# Altium schematic symbol library VESC_DEVICE_Library.SchLib: 34 symbols
Pins are listed as number, name and electrical type; pins without a type are passive.

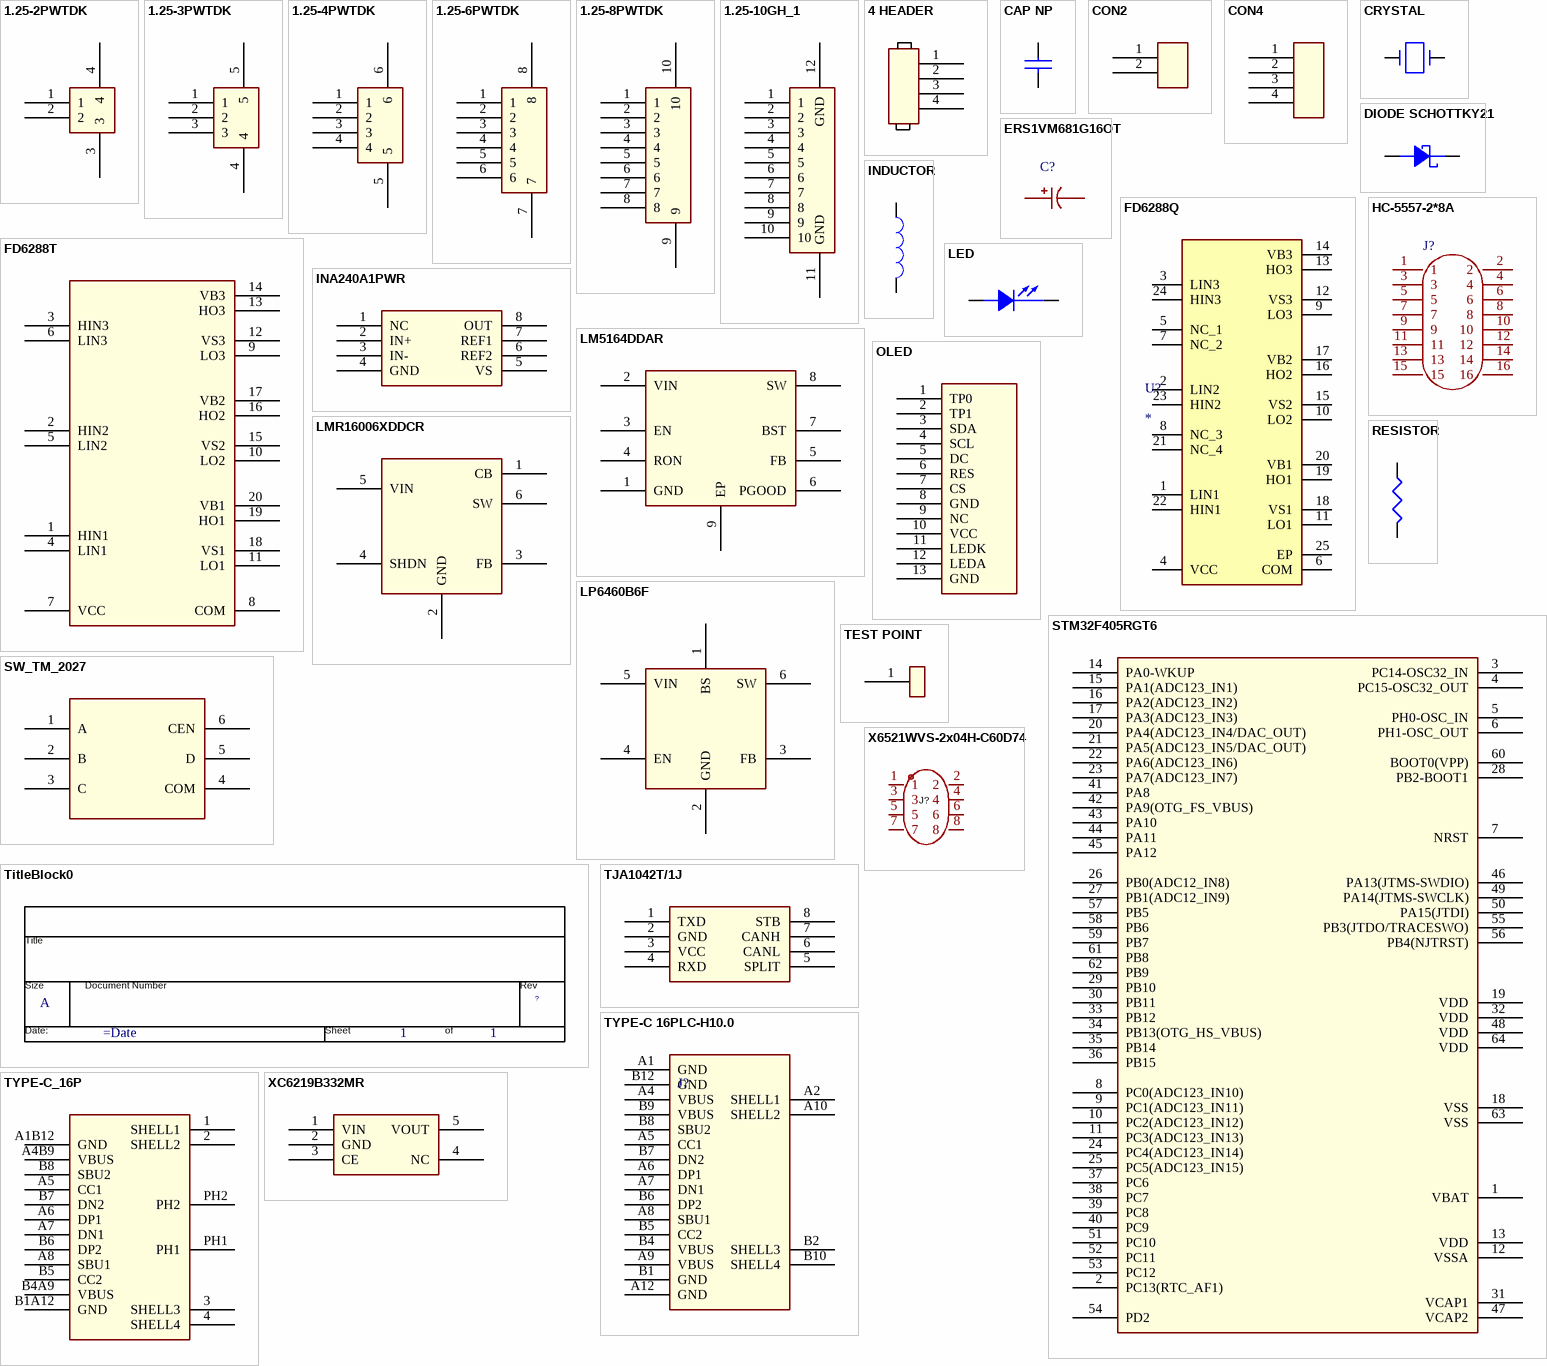
[diagram p0: symbols 1.25-2PWTDK to XC6219B332MR]

## 1.25-2PWTDK
designator J?
footprint SMD-2P-1_25
pins: 1, 2, 3, 4

## 1.25-3PWTDK
designator J?
footprint SMD-3P-1_25
pins: 1, 2, 3, 4, 5

## 1.25-4PWTDK
designator J?
footprint SMD-4P-1_25
pins: 1, 2, 3, 4, 5, 6

## 1.25-6PWTDK
designator J?
footprint SMD-6P-1_25
pins: 1, 2, 3, 4, 5, 6, 7, 8

## 1.25-8PWTDK
designator J?
footprint SMD-8P-1_25
pins: 1, 2, 3, 4, 5, 6, 7, 8, 9, 10

## 1.25-10GH_1
designator J?
footprint CONN-SMD_10P-P1.25_JS_GH125-S10CCA-00
pins: 1, 2, 3, 4, 5, 6, 7, 8, 9, 10, 11 GND, 12 GND

## 4 HEADER
designator J?
pins: 1, 2, 3, 4

## CAP NP
designator C?
pins: 1, 2

## CON2
designator J?
pins: 1, 2

## CON4
designator J?
pins: 1, 2, 3, 4

## CRYSTAL
designator Y?
pins: 1, 2

## DIODE SCHOTTKY21
designator D?
pins: 1 K, 2 A

## ERS1VM681G16OT
designator C?, comment 680uF  (value not drawn)
容值:680uF;精度:±20%;额定电压:35V;纹波电流:-;等效串联电阻:-;; Manufacturer: AISHI(艾华集团); Symbol: ERS1VM681G16OT; Add into BOM: yes; Tolerance: ±20%; Rated Voltage: 35V; Device: ERS1VM681G16OT; LCSC Part Name: 680uF ±20% 35V; Supplier Part: C721283; Manufacturer Part: ERS1VM681G16OT; Supplier Footprint: 插件,D10xL16mm; Datasheet: https://atta.szlcsc.com/upload/public/pdf/source/20191015/C438940_4B8E60A742BB0AE40DDEF87A5C89089D.pdf; Supplier: LCSC; Convert to PCB: yes; Value: 680uF; Ripple Current: -; Equivalent Series Resistance(ESR): -; Lead Spacing: -; φD: -; L: -; Lifetime @ Temp: -
footprint CAP-TH_BD10.0-P5.00-D0.6-FD
pins: 1, 2

## FD6288Q
designator U?
Integrated Circuit; Manufacturer_Name: Fortior Tech; Manufacturer_Part_Number: FD6288Q; Datasheet Link: https://datasheet.lcsc.com/szlcsc/1811131655_Fortior-Tech-FD6288Q_C328453.pdf; Height: 0.9mm
footprint QFN50P400X400X90-25N-D
pins: 1 LIN1, 2 LIN2, 3 LIN3, 4 VCC, 5 NC_1, 6 COM, 7 NC_2, 8 NC_3, 9 LO3, 10 LO2, 11 LO1, 12 VS3, 13 HO3, 14 VB3, 15 VS2, 16 HO2, 17 VB2, 18 VS1, 19 HO1, 20 VB1, 21 NC_4, 22 HIN1, 23 HIN2, 24 HIN3, 25 EP

## FD6288T
designator U?
footprint TSSOP-20
pins: 1 HIN1, 2 HIN2, 3 HIN3, 4 LIN1, 5 LIN2, 6 LIN3, 7 VCC (power), 8 COM (power), 9 LO3, 10 LO2, 11 LO1, 12 VS3, 13 HO3, 14 VB3, 15 VS2, 16 HO2, 17 VB2, 18 VS1, 19 HO1, 20 VB1

## HC-5557-2*8A
designator J?  (value not drawn)
插针结构:2x8P;间距:4.2mm;安装方式:直插;参考系列:Mini-Fit(MX 4.2);总PIN数:16P;排数:2;每排PIN数:8;行距:4.2mm;额定电流:9A;触头材质:黄铜;触头镀层:锡;工作温度范围:-25℃~+85℃;; Manufacturer: HCTL(华灿天禄); Add into BOM: yes; Pins Structure: 2x8P; Pitch: 4.2mm; Number of PINs Per Row: 8; Current Rating (Max): 9A; Rated Voltage (Max): 600V; Plastic Material: PA66; Flame Retardant Rating: UL94V-0; Z-Height of the Board: 13.1mm; X-Length of Bottom Edge on Board (Spacing Line): 34.8mm; Y-Width of Bottom Edge on Board: 11.4mm; Symbol: HC-5557-2*8A; Device: HC-5557-2*8A; LCSC Part Name: 2x8P 间距:4.2mm 直插 系列:Mini-Fit(MX 4.2); Supplier Part: C2845783; Manufacturer Part: HC-5557-2*8A; Supplier Footprint: 插件,P=4.2mm; Datasheet: https://atta.szlcsc.com/upload/public/pdf/source/20230620/FF5B1F4AE343F4430EEB0EA0134778E8.pdf; Supplier: LCSC; Convert to PCB: yes; Mounting Style: 直插; Reference Series: Mini-Fit(MX 4.2); Number of Pins: 16P; Number of Rows: 2; Row Spacing: 4.2mm; Contact Material: 黄铜; Contact Plating: 锡; Operating Temperature Range: -25℃~+85℃; Supplementary Features: -; Colour: -
footprint CONN-TH_HC5557-2X8A
pins: 1, 2, 3, 4, 5, 6, 7, 8, 9, 10, 11, 12, 13, 14, 15, 16

## INA240A1PWR
designator U?
footprint TSSOP-8
pins: 1 NC, 2 IN+, 3 IN-, 4 GND, 5 VS, 6 REF2, 7 REF1, 8 OUT

## INDUCTOR
designator L?
pins: 1, 2

## LED
designator D?
pins: 1 CATHODE, 2 ANODE

## LM5164DDAR
designator U?
footprint SO-8-EP
pins: 1 GND (power), 2 VIN (power), 3 EN, 4 RON, 5 FB, 6 PGOOD, 7 BST, 8 SW, 9 EP

## LMR16006XDDCR
designator U?
footprint SOT-23-6
pins: 1 CB, 2 GND, 3 FB, 4 SHDN, 5 VIN, 6 SW

## LP6460B6F
designator U?
footprint SOT-23-6
pins: 1 BS, 2 GND, 3 FB, 4 EN, 5 VIN, 6 SW

## OLED
designator CON?
footprint 0_78OLED
pins: 1 TP0, 2 TP1, 3 SDA, 4 SCL, 5 DC, 6 RES, 7 CS, 8 GND (power), 9 NC, 10 VCC (power), 11 LEDK, 12 LEDA, 13 GND (power)

## RESISTOR
designator R?
pins: 1, 2

## STM32F405RGT6
designator U?
footprint LQFP-64_10x10x05P
pins: 1 VBAT (power), 2 PC13(RTC_AF1), 3 PC14-OSC32_IN, 4 PC15-OSC32_OUT, 5 PH0-OSC_IN, 6 PH1-OSC_OUT, 7 NRST, 8 PC0(ADC123_IN10), 9 PC1(ADC123_IN11), 10 PC2(ADC123_IN12), 11 PC3(ADC123_IN13), 12 VSSA (power), 13 VDD (power), 14 PA0-WKUP, 15 PA1(ADC123_IN1), 16 PA2(ADC123_IN2), 17 PA3(ADC123_IN3), 18 VSS (power), 19 VDD (power), 20 PA4(ADC123_IN4/DAC_OUT), 21 PA5(ADC123_IN5/DAC_OUT), 22 PA6(ADC123_IN6), 23 PA7(ADC123_IN7), 24 PC4(ADC123_IN14), 25 PC5(ADC123_IN15), 26 PB0(ADC12_IN8), 27 PB1(ADC12_IN9), 28 PB2-BOOT1, 29 PB10, 30 PB11, 31 VCAP1, 32 VDD (power), 33 PB12, 34 PB13(OTG_HS_VBUS), 35 PB14, 36 PB15, 37 PC6, 38 PC7, 39 PC8, 40 PC9, 41 PA8, 42 PA9(OTG_FS_VBUS), 43 PA10, 44 PA11, 45 PA12, 46 PA13(JTMS-SWDIO), 47 VCAP2, 48 VDD (power), 49 PA14(JTMS-SWCLK), 50 PA15(JTDI), 51 PC10, 52 PC11, 53 PC12, 54 PD2, 55 PB3(JTDO/TRACESWO), 56 PB4(NJTRST), 57 PB5, 58 PB6, 59 PB7, 60 BOOT0(VPP), 61 PB8, 62 PB9, 63 VSS (power), 64 VDD (power)

## SW_TM_2027
designator SW?
footprint SW_SMD_6P_10X10
pins: 1 A, 2 B, 3 C, 4 COM, 5 D, 6 CEN

## TEST POINT
designator TP?
footprint HOLE-8MM_M
footprint HOLE-4MM_M
pins: 1

## TitleBlock0
designator *  Page Count: 1  Page Size: A  (hidden comment: *)  (graphical)
Page Create Date: March  8, 1995; Page Number: 1; RevCode: ?; Page Modify Date: =Date
text: Title; Size; Document Number; Rev; Date:; Sheet; of

## TJA1042T/1J
designator U?
footprint SOP-8_150mil
pins: 1 TXD, 2 GND, 3 VCC, 4 RXD, 5 SPLIT, 6 CANL, 7 CANH, 8 STB

## TM-2027
designator U?
footprint SW_SMD_6P_10X10

## TYPE-C 16PLC-H10.0
designator J?  (value not drawn)
连接器类型:Type-C;标准:USB 3.1;公母:母;安装方式:直插;触点数量:16P;端口数量:1;额定电流 - 电源:5A;触头材质:-;触头镀层:-;工作温度范围:-40℃~+85℃;; Manufacturer: SHOU HAN(首韩); Add into BOM: yes; Gender: 母; Number of Contacts: 16P; Number of Ports: 1; Current Rating - Power (Max): 5A; Rated Voltage (Max): 20V; Connect-Disconnect Life: 1万次; Core Colour: 黑色; Symbol: TYPE-C 16PLC-H10.0; Device: TYPE-C 16PLC-H10.0; LCSC Part Name: Type-C 母 直插; Supplier Part: C3151747; Manufacturer Part: TYPE-C 16PLC-H10.0; Supplier Footprint: 插件; Datasheet: https://atta.szlcsc.com/upload/public/pdf/source/20240529/CC9428849977884A813B584EA396EFE9.pdf; Supplier: LCSC; Convert to PCB: yes; Connector Type: Type-C; Standard: USB 3.1; Mounting Style: 直插; Contact Material: -; Contact Plating: -; Operating Temperature Range: -40℃~+85℃
footprint TYPE-C-TH_16PLC-H10.0
pins: A1 GND (power), A2 SHELL1 (power), A4 VBUS (power), A5 CC1, A6 DP1, A7 DN1, A8 SBU1, A9 VBUS (power), A10 SHELL2 (power), A12 GND (power), B1 GND (power), B2 SHELL3 (power), B4 VBUS (power), B5 CC2, B6 DP2, B7 DN2, B8 SBU2, B9 VBUS (power), B10 SHELL4 (power), B12 GND (power)

## TYPE-C_16P
designator J?
pins: 1 SHELL1 (power), 2 SHELL2 (power), 3 SHELL3 (power), 4 SHELL4 (power), A1B12 GND (power), A4B9 VBUS (power), A5 CC1, A6 DP1, A7 DN1, A8 SBU1, B1A12 GND (power), B4A9 VBUS (power), B5 CC2, B6 DP2, B7 DN2, B8 SBU2, PH1, PH2

## X6521WVS-2x04H-C60D74
designator J?  (value not drawn)
Manufacturer: XKB Connection(中国星坤); Symbol: X6521WVS-2*04H-C60D74; Add into BOM: yes; Pin Structure: 2x4P; Pitch: 2.54mm; Circluar Pins/Square Pins: 方针; Current Rating (Max): 3A; Voltage Rating (Max): 250V; Soldering Temperature(Max): 260℃; Device: X6521WVS-2x04H-C60D74; LCSC Part Name: 2x4P 间距:2.54mm 方针; Supplier Part: C780053; Manufacturer Part: X6521WVS-2x04H-C60D74; Supplier Footprint: SMD,P=2.54mm; JLCPCB Part Class: Extended Part; Datasheet: https://atta.szlcsc.com/upload/public/pdf/source/20211009/E3239EE5247E6BAFECB8B74A4FCF9AB8.pdf; Supplier: LCSC; Convert to PCB: yes; Row Spacing: 2.54mm; Mounting Type: -; Number of Rows: 双排; Number of Pins: 8P; Length of Mating Pin: -; Insulation Height: 2.5mm; Length of End Connection Pin: -; Contact Material: 黄铜; Contact Plating: 金; Operating Temperature Range: -40℃~+105℃; Color: 黑色
footprint HDR-SMD_8P-P1.27-V-M-C2-C4-LS5.3
pins: 1, 2, 3, 4, 5, 6, 7, 8

## XC6219B332MR
designator U?
footprint SOT-23-5
pins: 1 VIN, 2 GND, 3 CE, 4 NC, 5 VOUT